# Altium footprint library PcbLib1.PcbLib: 1 footprints
Each footprint in its own frame and in the unit in brackets; x right, y up, seen from the top. Pads: shape width x height; smd on the part's side, far side on the other; paste and mask are expansions set on the pad; w line width, h text height; cw(c..) or ccw(c..) is an arc to the next point about the centre after c.
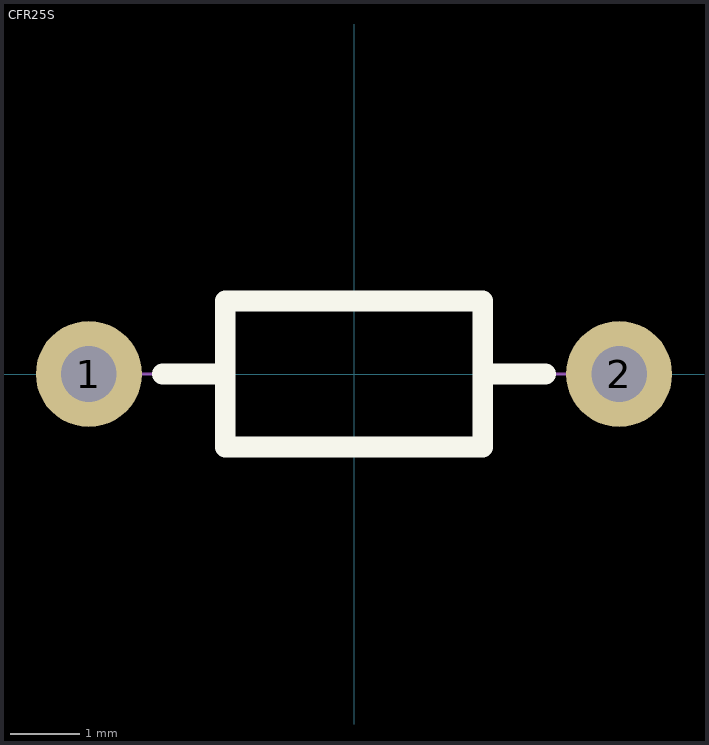
[diagram p0: the footprint, top view; thin cyan lines are the x and y axes]

## CFR25S [mil] "Resistor 1/4W"
height 82.68
pads (2):
  round 60 hole 31.5: 1(-150,0) 2(150,0)
Top Overlay:
  lines w11.81: -108.27,0 -72.83,0 ; 72.83,0 108.27,0 ; -72.83,-41.34 -72.83,41.34 0,41.34 72.83,41.34 72.83,-41.34 -72.83,-41.34
Mechanical 2:
  circle w1.97: c150,0 r25.59
  circle w1.97: c-150,0 r25.59
  lines w1.97: -124.41,0 -72.83,0 ; 72.83,0 124.41,0 ; -72.83,-41.34 -72.83,41.34 0,41.34 72.83,41.34 72.83,-41.34 -72.83,-41.34
3D body "User Library-Yageo CFR-25 Resistor Axial P7_62mm 470,0 Ohm.step": height 96.2, standoff -118.09, extent -160.68,-45.46 160.98,45.09